# EAGLE library part ENC+SW (library encoder)
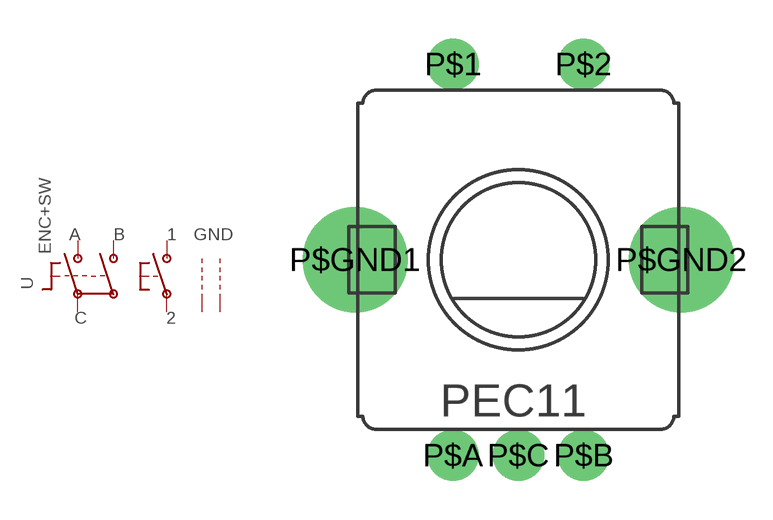
[diagram p0: symbol with the pads of PEC11+SWITCH; footprint PEC11+SWITCH]

Designator prefix -

## ENC+SW_BOURNS_PEC11  [PEC11+SWITCH]
P$1  P$1  pas
P$2  P$2  pas
P$A  P$A  pas
P$B  P$B  pas
P$C  P$C  pas
P$GND1  P$GND1  pas
P$GND2  P$GND2  pas

## Footprint PEC11+SWITCH (pad centres in mm)
drill 1 pad 2 round: P$1 -2.54,7.62; P$2 2.54,7.62; P$A -2.54,-7.62; P$B 2.54,-7.62; P$C 0,-7.62
drill 2.6 pad 4.1 round: P$GND1 -6.35,0; P$GND2 6.35,0